# Altium footprint library special function.PcbLib: 1 footprints
Each footprint in its own frame and in the unit in brackets; x right, y up, seen from the top. Pads: shape width x height; smd on the part's side, far side on the other; paste and mask are expansions set on the pad; w line width, h text height; cw(c..) or ccw(c..) is an arc to the next point about the centre after c.
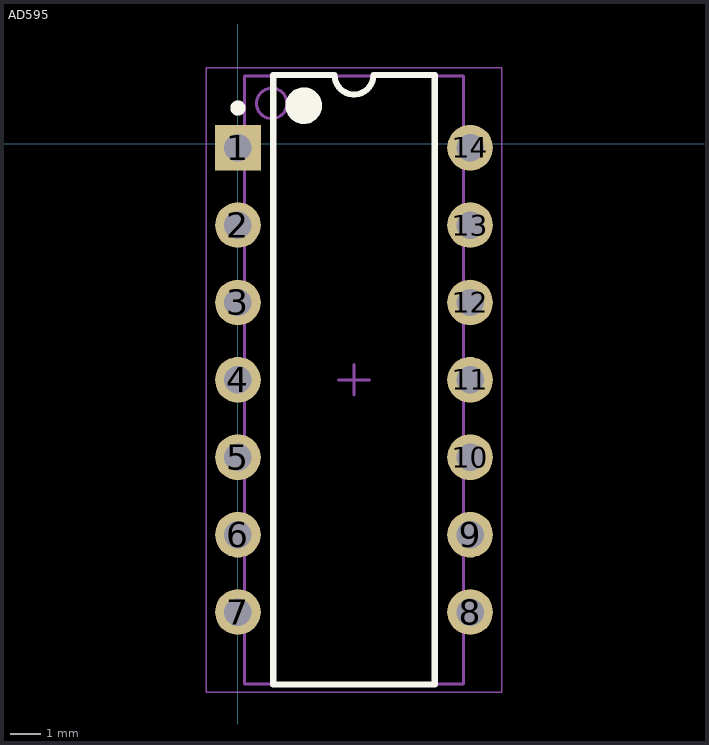
[diagram p0: the footprint, top view; thin cyan lines are the x and y axes]

## AD595 [mm] "Thermocouple conditioner"
height 4
pads (14):
  rect 1.5x1.5 hole 0.9: 1(0,-0.127)
  round 1.5 hole 0.9: 2(0,-2.667) 3(0,-5.207) 4(0,-7.747) 5(0,-10.287) 6(0,-12.827) 7(0,-15.367) 8(7.62,-15.367) 9(7.62,-12.827) 10(7.62,-10.287) 11(7.62,-7.747) 12(7.62,-5.207) 13(7.62,-2.667) 14(7.62,-0.127)
Top Overlay:
  circle w0.25: c0,1.173 r0.125
  circle w0.6: c2.16,1.253 r0.3
  lines w0.2: 1.16,-17.747 1.16,2.253 3.175,2.253 ccw(c3.81,2.253) 4.445,2.253 6.46,2.253 6.46,-17.747 1.16,-17.747
Mechanical 13:
  circle w0.1: c1.11,1.328 r0.5
  lines w0.1: 0.21,-17.722 0.21,2.228 7.41,2.228 7.41,-17.722 0.21,-17.722
Mechanical 15:
  lines w0.05: -1.04,-17.997 -1.04,2.503 8.66,2.503 8.66,-17.997 -1.04,-17.997
  lines w0.1: 3.31,-7.747 4.31,-7.747 ; 3.81,-8.247 3.81,-7.247
3D body: height 2.6, standoff 0, extent -0.135,-0.627 0.135,0.373
3D body: height 2.87, standoff 2.6, extent -0.135,-0.627 0.21,0.373
3D body: height 0, standoff -1.6, extent -0.135,-0.487 0.135,0.233
3D body: height 2.6, standoff 0, extent -0.135,-3.167 0.135,-2.167
3D body: height 2.87, standoff 2.6, extent -0.135,-3.167 0.21,-2.167
3D body: height 0, standoff -1.6, extent -0.135,-3.027 0.135,-2.307
3D body: height 2.6, standoff 0, extent -0.135,-5.707 0.135,-4.707
3D body: height 2.87, standoff 2.6, extent -0.135,-5.707 0.21,-4.707
3D body: height 0, standoff -1.6, extent -0.135,-5.567 0.135,-4.847
3D body: height 2.6, standoff 0, extent -0.135,-8.247 0.135,-7.247
3D body: height 2.87, standoff 2.6, extent -0.135,-8.247 0.21,-7.247
3D body: height 0, standoff -1.6, extent -0.135,-8.107 0.135,-7.387
3D body: height 2.6, standoff 0, extent -0.135,-10.787 0.135,-9.787
3D body: height 2.87, standoff 2.6, extent -0.135,-10.787 0.21,-9.787
3D body: height 0, standoff -1.6, extent -0.135,-10.647 0.135,-9.927
3D body: height 2.6, standoff 0, extent -0.135,-13.327 0.135,-12.327
3D body: height 2.87, standoff 2.6, extent -0.135,-13.327 0.21,-12.327
3D body: height 0, standoff -1.6, extent -0.135,-13.187 0.135,-12.467
3D body: height 2.6, standoff 0, extent -0.135,-15.867 0.135,-14.867
3D body: height 2.87, standoff 2.6, extent -0.135,-15.867 0.21,-14.867
3D body: height 0, standoff -1.6, extent -0.135,-15.727 0.135,-15.007
3D body: height 2.6, standoff 0, extent 7.485,-15.867 7.755,-14.867
3D body: height 2.87, standoff 2.6, extent 7.41,-15.867 7.755,-14.867
3D body: height 0, standoff -1.6, extent 7.485,-15.727 7.755,-15.007
3D body: height 2.6, standoff 0, extent 7.485,-13.327 7.755,-12.327
3D body: height 2.87, standoff 2.6, extent 7.41,-13.327 7.755,-12.327
3D body: height 0, standoff -1.6, extent 7.485,-13.187 7.755,-12.467
3D body: height 2.6, standoff 0, extent 7.485,-10.787 7.755,-9.787
3D body: height 2.87, standoff 2.6, extent 7.41,-10.787 7.755,-9.787
3D body: height 0, standoff -1.6, extent 7.485,-10.647 7.755,-9.927
3D body: height 2.6, standoff 0, extent 7.485,-8.247 7.755,-7.247
3D body: height 2.87, standoff 2.6, extent 7.41,-8.247 7.755,-7.247
3D body: height 0, standoff -1.6, extent 7.485,-8.107 7.755,-7.387
3D body: height 2.6, standoff 0, extent 7.485,-5.707 7.755,-4.707
3D body: height 2.87, standoff 2.6, extent 7.41,-5.707 7.755,-4.707
3D body: height 0, standoff -1.6, extent 7.485,-5.567 7.755,-4.847
3D body: height 2.6, standoff 0, extent 7.485,-3.167 7.755,-2.167
3D body: height 2.87, standoff 2.6, extent 7.41,-3.167 7.755,-2.167
3D body: height 0, standoff -1.6, extent 7.485,-3.027 7.755,-2.307
3D body: height 2.6, standoff 0, extent 7.485,-0.627 7.755,0.373
3D body: height 2.87, standoff 2.6, extent 7.41,-0.627 7.755,0.373
3D body: height 0, standoff -1.6, extent 7.485,-0.487 7.755,0.233
3D body: height 5.08, standoff 0.38, extent 0.21,-17.722 7.41,2.228